# Altium schematic symbol library WE-LAN 10G.SchLib: 14 symbols
Pins are listed as number, name and electrical type; pins without a type are passive.

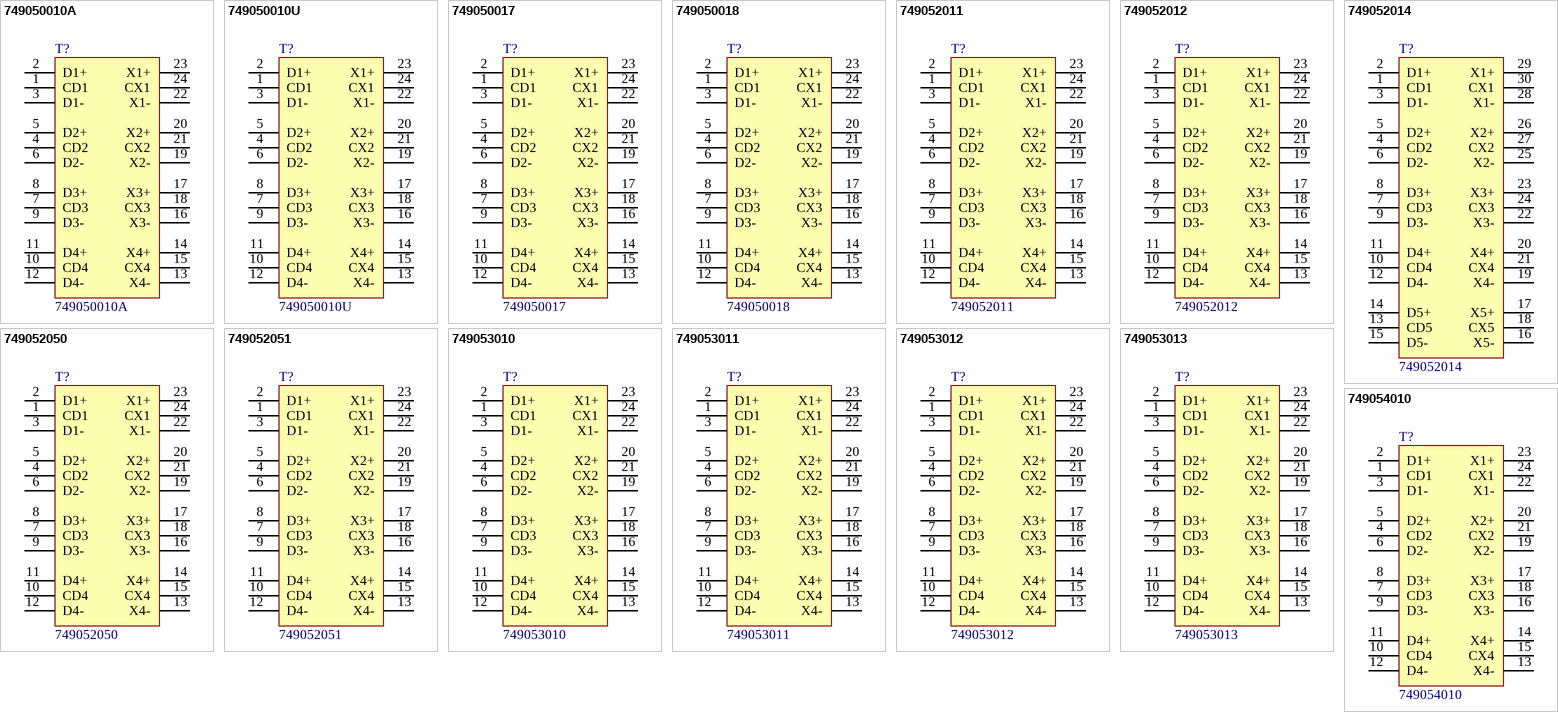
[diagram p0: symbols 749050010A to 749054010]

## 749050010A
designator T?
WE-LAN 10G Transformer 10Gbit Base-T, SMT, 1 Port, 200 µH; Manufacturer: Wurth Elektronik; Data Rate: 10G Base-T; HPLE: No; Inductance: 200 µH; Insulation Test Voltage: 1500 V (RMS); Number of Ports: 1; PoE: non-PoE; Manufacturer Part Number: 749050010A; Category: Signal Transformers; Match Code: WE-LAN 10G; ComponentLink1Description: Website Link; ComponentLink1URL: https://www.we-online.com/redexpert/article/749050010A?ad; ComponentLink2Description: Datasheet Link; ComponentLink2URL: https://www.we-online.com/redexpert/spec/749050010A?ad; Mount: Surface Mount; Min Operating Temperature: 0 °C; Max Operating Temperature: 70 °C; Packaging: Tape and Reel; Length: 13.72 mm; Width: 11.47 mm; Height: 6.6 mm; Number of Pins: 24
footprint 749050010A
pins: 1 CD1, 2 D1+, 3 D1-, 4 CD2, 5 D2+, 6 D2-, 7 CD3, 8 D3+, 9 D3-, 10 CD4, 11 D4+, 12 D4-, 13 X4-, 14 X4+, 15 CX4, 16 X3-, 17 X3+, 18 CX3, 19 X2-, 20 X2+, 21 CX2, 22 X1-, 23 X1+, 24 CX1

## 749050010U
designator T?
WE-LAN 10G Transformer 10Gbit Base-T, SMT, 1 Port, 200 µH; Manufacturer: Wurth Elektronik; Data Rate: 10G Base-T; HPLE: No; Inductance: 200 µH; Insulation Test Voltage: 1500 V (RMS); Number of Ports: 1; PoE: non-PoE; Manufacturer Part Number: 749050010U; Category: Signal Transformers; Match Code: WE-LAN 10G; ComponentLink1Description: Website Link; ComponentLink1URL: https://www.we-online.com/redexpert/article/749050010U?ad; ComponentLink2Description: Datasheet Link; ComponentLink2URL: https://www.we-online.com/redexpert/spec/749050010U?ad; Mount: Surface Mount; Min Operating Temperature: 0 °C; Max Operating Temperature: 70 °C; Packaging: Tape and Reel; Length: 13.97 mm; Width: 13.97 mm; Height: 6.6 mm; Number of Pins: 24
footprint 749050010U
pins: 1 CD1, 2 D1+, 3 D1-, 4 CD2, 5 D2+, 6 D2-, 7 CD3, 8 D3+, 9 D3-, 10 CD4, 11 D4+, 12 D4-, 13 X4-, 14 X4+, 15 CX4, 16 X3-, 17 X3+, 18 CX3, 19 X2-, 20 X2+, 21 CX2, 22 X1-, 23 X1+, 24 CX1

## 749050017
designator T?
WE-LAN 10G Transformer 10Gbit Base-T, SMT, 1 Port, 120 µH; Manufacturer: Wurth Elektronik; Data Rate: 10G Base-T; HPLE: No; Inductance: 120 µH; Insulation Test Voltage: 1500 V (RMS); Number of Ports: 1; PoE: non-PoE; Manufacturer Part Number: 749050017; Category: Signal Transformers; Match Code: WE-LAN 10G; ComponentLink1Description: Website Link; ComponentLink1URL: https://www.we-online.com/redexpert/article/749050017?ad; ComponentLink2Description: Datasheet Link; ComponentLink2URL: https://www.we-online.com/redexpert/spec/749050017?ad; Mount: Surface Mount; Min Operating Temperature: -40 °C; Max Operating Temperature: 85 °C; Packaging: Tape and Reel; Length: 13.5 mm; Width: 13.97 mm; Height: 6.6 mm; Number of Pins: 24
footprint 749050017
pins: 1 CD1, 2 D1+, 3 D1-, 4 CD2, 5 D2+, 6 D2-, 7 CD3, 8 D3+, 9 D3-, 10 CD4, 11 D4+, 12 D4-, 13 X4-, 14 X4+, 15 CX4, 16 X3-, 17 X3+, 18 CX3, 19 X2-, 20 X2+, 21 CX2, 22 X1-, 23 X1+, 24 CX1

## 749050018
designator T?
WE-LAN 10G Transformer 10Gbit Base-T, SMT, 1 Port, 120 µH; Manufacturer: Wurth Elektronik; Data Rate: 10G Base-T; HPLE: No; Inductance: 120 µH; Insulation Test Voltage: 1500 V (RMS); Number of Ports: 1; PoE: non-PoE; Manufacturer Part Number: 749050018; Category: Signal Transformers; Match Code: WE-LAN 10G; ComponentLink1Description: Website Link; ComponentLink1URL: https://www.we-online.com/redexpert/article/749050018?ad; ComponentLink2Description: Datasheet Link; ComponentLink2URL: https://www.we-online.com/redexpert/spec/749050018?ad; Mount: Surface Mount; Min Operating Temperature: -40 °C; Max Operating Temperature: 85 °C; Packaging: Tape and Reel; Length: 13.5 mm; Width: 13.97 mm; Height: 6.6 mm; Number of Pins: 24
footprint 749050018
pins: 1 CD1, 2 D1+, 3 D1-, 4 CD2, 5 D2+, 6 D2-, 7 CD3, 8 D3+, 9 D3-, 10 CD4, 11 D4+, 12 D4-, 13 X4-, 14 X4+, 15 CX4, 16 X3-, 17 X3+, 18 CX3, 19 X2-, 20 X2+, 21 CX2, 22 X1-, 23 X1+, 24 CX1

## 749052011
designator T?
WE-LAN 10G Transformer 10Gbit Base-T, SMT, 1 Port, 120 µH; Manufacturer: Wurth Elektronik; Data Rate: 10G Base-T; HPLE: No; Inductance: 120 µH; Insulation Test Voltage: 1500 V (RMS); Number of Ports: 1; PoE: PoE+ (up to 600 mA); Manufacturer Part Number: 749052011; Category: Signal Transformers; Match Code: WE-LAN 10G; ComponentLink1Description: Website Link; ComponentLink1URL: https://www.we-online.com/redexpert/article/749052011?ad; ComponentLink2Description: Datasheet Link; ComponentLink2URL: https://www.we-online.com/redexpert/spec/749052011?ad; Mount: Surface Mount; Min Operating Temperature: 0 °C; Max Operating Temperature: 70 °C; Packaging: Tape and Reel; Length: 18.29 mm; Width: 14.7 mm; Height: 7.2 mm; Number of Pins: 24
footprint 749052011
pins: 1 CD1, 2 D1+, 3 D1-, 4 CD2, 5 D2+, 6 D2-, 7 CD3, 8 D3+, 9 D3-, 10 CD4, 11 D4+, 12 D4-, 13 X4-, 14 X4+, 15 CX4, 16 X3-, 17 X3+, 18 CX3, 19 X2-, 20 X2+, 21 CX2, 22 X1-, 23 X1+, 24 CX1

## 749052012
designator T?
WE-LAN 10G Transformer 10Gbit Base-T, SMT, 1 Port, 120 µH; Manufacturer: Wurth Elektronik; Data Rate: 10G Base-T; HPLE: No; Inductance: 120 µH; Insulation Test Voltage: 1500 V (RMS); Number of Ports: 1; PoE: PoE+ (up to 600 mA); Manufacturer Part Number: 749052012; Category: Signal Transformers; Match Code: WE-LAN 10G; ComponentLink1Description: Website Link; ComponentLink1URL: https://www.we-online.com/redexpert/article/749052012?ad; ComponentLink2Description: Datasheet Link; ComponentLink2URL: https://www.we-online.com/redexpert/spec/749052012?ad; Mount: Surface Mount; Min Operating Temperature: 0 °C; Max Operating Temperature: 70 °C; Packaging: Tape and Reel; Length: 13.97 mm; Width: 13.5 mm; Height: 6.6 mm; Number of Pins: 24
footprint 749052012
pins: 1 CD1, 2 D1+, 3 D1-, 4 CD2, 5 D2+, 6 D2-, 7 CD3, 8 D3+, 9 D3-, 10 CD4, 11 D4+, 12 D4-, 13 X4-, 14 X4+, 15 CX4, 16 X3-, 17 X3+, 18 CX3, 19 X2-, 20 X2+, 21 CX2, 22 X1-, 23 X1+, 24 CX1

## 749052014
designator T?
WE-LAN 10G Transformer 10Gbit Base-T, SMT, 1 Port, 180 µH; Manufacturer: Wurth Elektronik; Data Rate: 10G Base-T; HPLE: No; Inductance: 180 µH; Insulation Test Voltage: 1500 V (RMS); Number of Ports: 1; PoE: non-PoE; Manufacturer Part Number: 749052014; Category: Signal Transformers; Match Code: WE-LAN 10G; ComponentLink1Description: Website Link; ComponentLink1URL: https://www.we-online.com/redexpert/article/749052014?ad; ComponentLink2Description: Datasheet Link; ComponentLink2URL: https://www.we-online.com/redexpert/spec/749052014?ad; Mount: Surface Mount; Min Operating Temperature: -40 °C; Max Operating Temperature: 105 °C; Packaging: Tape and Reel; Length: 17.73 mm; Width: 14.86 mm; Height: 7.24 mm; Number of Pins: 30
footprint 749052014
pins: 1 CD1, 2 D1+, 3 D1-, 4 CD2, 5 D2+, 6 D2-, 7 CD3, 8 D3+, 9 D3-, 10 CD4, 11 D4+, 12 D4-, 13 CD5, 14 D5+, 15 D5-, 16 X5-, 17 X5+, 18 CX5, 19 X4-, 20 X4+, 21 CX4, 22 X3-, 23 X3+, 24 CX3, 25 X2-, 26 X2+, 27 CX2, 28 X1-, 29 X1+, 30 CX1

## 749052050
designator T?
WE-LAN 10G Transformer 10Gbit Base-T, SMT, 1 Port, 180 µH; Manufacturer: Wurth Elektronik; Data Rate: 10G Base-T; HPLE: No; Inductance: 180 µH; Insulation Test Voltage: 1500 V (RMS); Number of Ports: 1; PoE: PoE+ (up to 1 A); Manufacturer Part Number: 749052050; Category: Signal Transformers; Match Code: WE-LAN 10G; ComponentLink1Description: Website Link; ComponentLink1URL: https://www.we-online.com/redexpert/article/749052050?ad; ComponentLink2Description: Datasheet Link; ComponentLink2URL: https://www.we-online.com/redexpert/spec/749052050?ad; Mount: Surface Mount; Min Operating Temperature: 0 °C; Max Operating Temperature: 70 °C; Packaging: Tape and Reel; Length: 18.29 mm; Width: 14.7 mm; Height: 8.8 mm; Number of Pins: 24
footprint 749052050
pins: 1 CD1, 2 D1+, 3 D1-, 4 CD2, 5 D2+, 6 D2-, 7 CD3, 8 D3+, 9 D3-, 10 CD4, 11 D4+, 12 D4-, 13 X4-, 14 X4+, 15 CX4, 16 X3-, 17 X3+, 18 CX3, 19 X2-, 20 X2+, 21 CX2, 22 X1-, 23 X1+, 24 CX1

## 749052051
designator T?
WE-LAN 10G Transformer 10Gbit Base-T, SMT, 1 Port, 120 µH; Manufacturer: Wurth Elektronik; Data Rate: 10G Base-T; HPLE: No; Inductance: 120 µH; Insulation Test Voltage: 1500 V (RMS); Number of Ports: 1; PoE: PoE+ (up to 1 A); Manufacturer Part Number: 749052051; Category: Signal Transformers; Match Code: WE-LAN 10G; ComponentLink1Description: Website Link; ComponentLink1URL: https://www.we-online.com/redexpert/article/749052051?ad; ComponentLink2Description: Datasheet Link; ComponentLink2URL: https://www.we-online.com/redexpert/spec/749052051?ad; Mount: Surface Mount; Min Operating Temperature: -40 °C; Max Operating Temperature: 85 °C; Packaging: Tape and Reel; Length: 18.29 mm; Width: 14.7 mm; Height: 8.8 mm; Number of Pins: 24
footprint 749052051
pins: 1 CD1, 2 D1+, 3 D1-, 4 CD2, 5 D2+, 6 D2-, 7 CD3, 8 D3+, 9 D3-, 10 CD4, 11 D4+, 12 D4-, 13 X4-, 14 X4+, 15 CX4, 16 X3-, 17 X3+, 18 CX3, 19 X2-, 20 X2+, 21 CX2, 22 X1-, 23 X1+, 24 CX1

## 749053010
designator T?
WE-LAN 10G Transformer 10Gbit Base-T, SMT, 1 Port, 120 µH; Manufacturer: Wurth Elektronik; Data Rate: 10G Base-T; HPLE: No; Inductance: 120 µH; Insulation Test Voltage: 1500 V (RMS); Number of Ports: 1; PoE: PoE (up to 350 mA); Manufacturer Part Number: 749053010; Category: Signal Transformers; Match Code: WE-LAN 10G; ComponentLink1Description: Website Link; ComponentLink1URL: https://www.we-online.com/redexpert/article/749053010?ad; ComponentLink2Description: Datasheet Link; ComponentLink2URL: https://www.we-online.com/redexpert/spec/749053010?ad; Mount: Surface Mount; Min Operating Temperature: 0 °C; Max Operating Temperature: 70 °C; Packaging: Tape and Reel; Length: 13.97 mm; Width: 13.5 mm; Height: 6.6 mm; Number of Pins: 24
footprint 749053010
pins: 1 CD1, 2 D1+, 3 D1-, 4 CD2, 5 D2+, 6 D2-, 7 CD3, 8 D3+, 9 D3-, 10 CD4, 11 D4+, 12 D4-, 13 X4-, 14 X4+, 15 CX4, 16 X3-, 17 X3+, 18 CX3, 19 X2-, 20 X2+, 21 CX2, 22 X1-, 23 X1+, 24 CX1

## 749053011
designator T?
WE-LAN 10G Transformer 10Gbit Base-T, SMT, 1 Port, 200 µH; Manufacturer: Wurth Elektronik; Data Rate: 10G Base-T; HPLE: No; Inductance: 200 µH; Insulation Test Voltage: 1500 V (RMS); Number of Ports: 1; PoE: PoE (up to 350 mA); Manufacturer Part Number: 749053011; Category: Signal Transformers; Match Code: WE-LAN 10G; ComponentLink1Description: Website Link; ComponentLink1URL: https://www.we-online.com/redexpert/article/749053011?ad; ComponentLink2Description: Datasheet Link; ComponentLink2URL: https://www.we-online.com/redexpert/spec/749053011?ad; Mount: Surface Mount; Min Operating Temperature: 0 °C; Max Operating Temperature: 70 °C; Packaging: Tape and Reel; Length: 13.97 mm; Width: 13.5 mm; Height: 6.6 mm; Number of Pins: 24
footprint 749053011
pins: 1 CD1, 2 D1+, 3 D1-, 4 CD2, 5 D2+, 6 D2-, 7 CD3, 8 D3+, 9 D3-, 10 CD4, 11 D4+, 12 D4-, 13 X4-, 14 X4+, 15 CX4, 16 X3-, 17 X3+, 18 CX3, 19 X2-, 20 X2+, 21 CX2, 22 X1-, 23 X1+, 24 CX1

## 749053012
designator T?
WE-LAN 10G Transformer 10Gbit Base-T, SMT, 1 Port, 200 µH; Manufacturer: Wurth Elektronik; Data Rate: 10G Base-T; HPLE: No; Inductance: 200 µH; Insulation Test Voltage: 1500 V (RMS); Number of Ports: 1; PoE: PoE (up to 350 mA); Manufacturer Part Number: 749053012; Category: Signal Transformers; Match Code: WE-LAN 10G; ComponentLink1Description: Website Link; ComponentLink1URL: https://www.we-online.com/redexpert/article/749053012?ad; ComponentLink2Description: Datasheet Link; ComponentLink2URL: https://www.we-online.com/redexpert/spec/749053012?ad; Mount: Surface Mount; Min Operating Temperature: -40 °C; Max Operating Temperature: 85 °C; Packaging: Tape and Reel; Length: 13.97 mm; Width: 13.5 mm; Height: 6.6 mm; Number of Pins: 24
footprint 749053012
pins: 1 CD1, 2 D1+, 3 D1-, 4 CD2, 5 D2+, 6 D2-, 7 CD3, 8 D3+, 9 D3-, 10 CD4, 11 D4+, 12 D4-, 13 X4-, 14 X4+, 15 CX4, 16 X3-, 17 X3+, 18 CX3, 19 X2-, 20 X2+, 21 CX2, 22 X1-, 23 X1+, 24 CX1

## 749053013
designator T?
WE-LAN 10G Transformer 10Gbit Base-T, SMT, 1 Port, 120 µH; Manufacturer: Wurth Elektronik; Data Rate: 10G Base-T; HPLE: No; Inductance: 120 µH; Insulation Test Voltage: 1500 V (RMS); Number of Ports: 1; PoE: PoE (up to 350 mA); Manufacturer Part Number: 749053013; Category: Signal Transformers; Match Code: WE-LAN 10G; ComponentLink1Description: Website Link; ComponentLink1URL: https://www.we-online.com/redexpert/article/749053013?ad; ComponentLink2Description: Datasheet Link; ComponentLink2URL: https://www.we-online.com/redexpert/spec/749053013?ad; Mount: Surface Mount; Min Operating Temperature: -40 °C; Max Operating Temperature: 85 °C; Packaging: Tape and Reel; Length: 13.97 mm; Width: 13.5 mm; Height: 6.6 mm; Number of Pins: 24
footprint 749053013
pins: 1 CD1, 2 D1+, 3 D1-, 4 CD2, 5 D2+, 6 D2-, 7 CD3, 8 D3+, 9 D3-, 10 CD4, 11 D4+, 12 D4-, 13 X4-, 14 X4+, 15 CX4, 16 X3-, 17 X3+, 18 CX3, 19 X2-, 20 X2+, 21 CX2, 22 X1-, 23 X1+, 24 CX1

## 749054010
designator T?
WE-LAN 10G Transformer 10Gbit Base-T, SMT, 1 Port, 120 µH; Manufacturer: Wurth Elektronik; Data Rate: 10G Base-T; HPLE: No; Inductance: 120 µH; Insulation Test Voltage: 4000 V (RMS); Number of Ports: 1; PoE: PoE (up to 350 mA); Manufacturer Part Number: 749054010; Category: Signal Transformers; Match Code: WE-LAN 10G; ComponentLink1Description: Website Link; ComponentLink1URL: https://www.we-online.com/redexpert/article/749054010?ad; ComponentLink2Description: Datasheet Link; ComponentLink2URL: https://www.we-online.com/redexpert/spec/749054010?ad; Mount: Surface Mount; Min Operating Temperature: -40 °C; Max Operating Temperature: 85 °C; Packaging: Tape and Reel; Length: 18.25 mm; Width: 15.24 mm; Height: 10.02 mm; Number of Pins: 24
footprint 749054010
pins: 1 CD1, 2 D1+, 3 D1-, 4 CD2, 5 D2+, 6 D2-, 7 CD3, 8 D3+, 9 D3-, 10 CD4, 11 D4+, 12 D4-, 13 X4-, 14 X4+, 15 CX4, 16 X3-, 17 X3+, 18 CX3, 19 X2-, 20 X2+, 21 CX2, 22 X1-, 23 X1+, 24 CX1